# Altium schematic symbol library Components.SchLib: 3 symbols
Pins are listed as number, name and electrical type; pins without a type are passive.

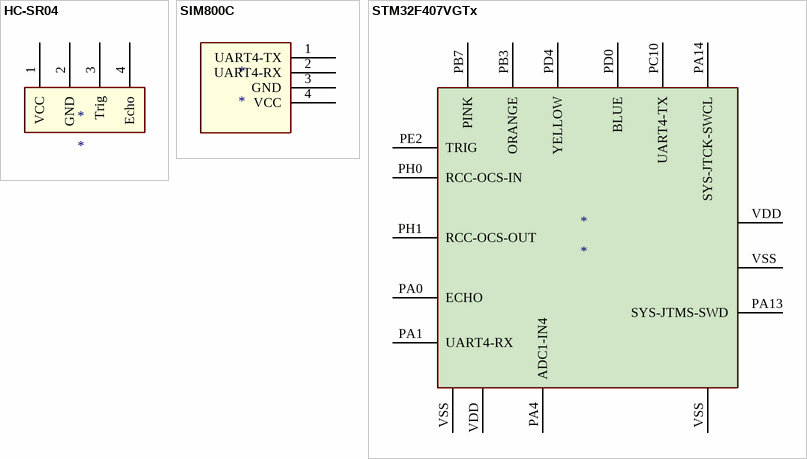
[diagram p0: symbols HC-SR04 to STM32F407VGTx]

## HC-SR04
designator *
pins: 1 VCC, 2 GND, 3 Trig, 4 Echo

## SIM800C
designator *
pins: 1 UART4-TX, 2 UART4-RX, 3 GND, 4 VCC

## STM32F407VGTx
designator *
pins: PA0 ECHO, PA1 UART4-RX, PA4 ADC1-IN4, PA13 SYS-JTMS-SWD, PA14 SYS-JTCK-SWCL, PB3 ORANGE, PB7 PINK, PC10 UART4-TX, PD0 BLUE, PD4 YELLOW, PE2 TRIG, PH0 RCC-OCS-IN, PH1 RCC-OCS-OUT, VDD PD5, VDD VSS, VSS PD6, VSS, VSS